# EAGLE library part REG_LTC3588-1 (library akita)
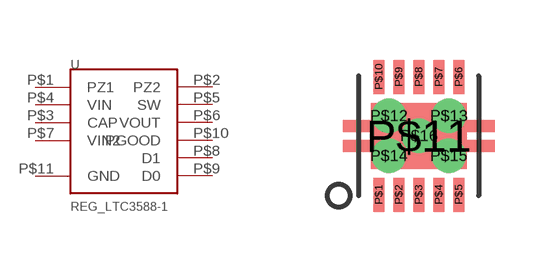
[diagram p79: symbol with the pads of DFN10E; footprint DFN10E]

Designator prefix -

## REG_LTC3588-1DD  [DFN10E]
P$1  PZ1
P$2  PZ2
P$3  CAP
P$4  VIN
P$5  SW
P$6  VOUT
P$7  VIN2
P$8  D1
P$9  D0
P$10  PGOOD
P$11  GND

## Footprint DFN10E (pad centres in mm)
DFN10, 3x3mm, 0.5mm, with EPAD
smd 0.28 x 0.85: P$1 -1,-1.475; P$2 -0.5,-1.475; P$3 0,-1.475; P$4 0.5,-1.475; P$5 1,-1.475; P$6 1,1.475; P$7 0.5,1.475; P$8 0,1.475; P$9 -0.5,1.475; P$10 -1,1.475
smd 2.4 x 1.65: P$11 0,0
drill 0.35 pad 0.5: P$12 -0.75,0.5; P$13 0.75,0.5; P$14 -0.75,-0.5; P$15 0.75,-0.5; P$16 0,0